# Altium footprint library Resistor.PcbLib: 42 footprints (part 2 of 3)
Each footprint in its own frame and in the unit in brackets; x right, y up, seen from the top. Pads: shape width x height; smd on the part's side, far side on the other; paste and mask are expansions set on the pad; w line width, h text height; cw(c..) or ccw(c..) is an arc to the next point about the centre after c.
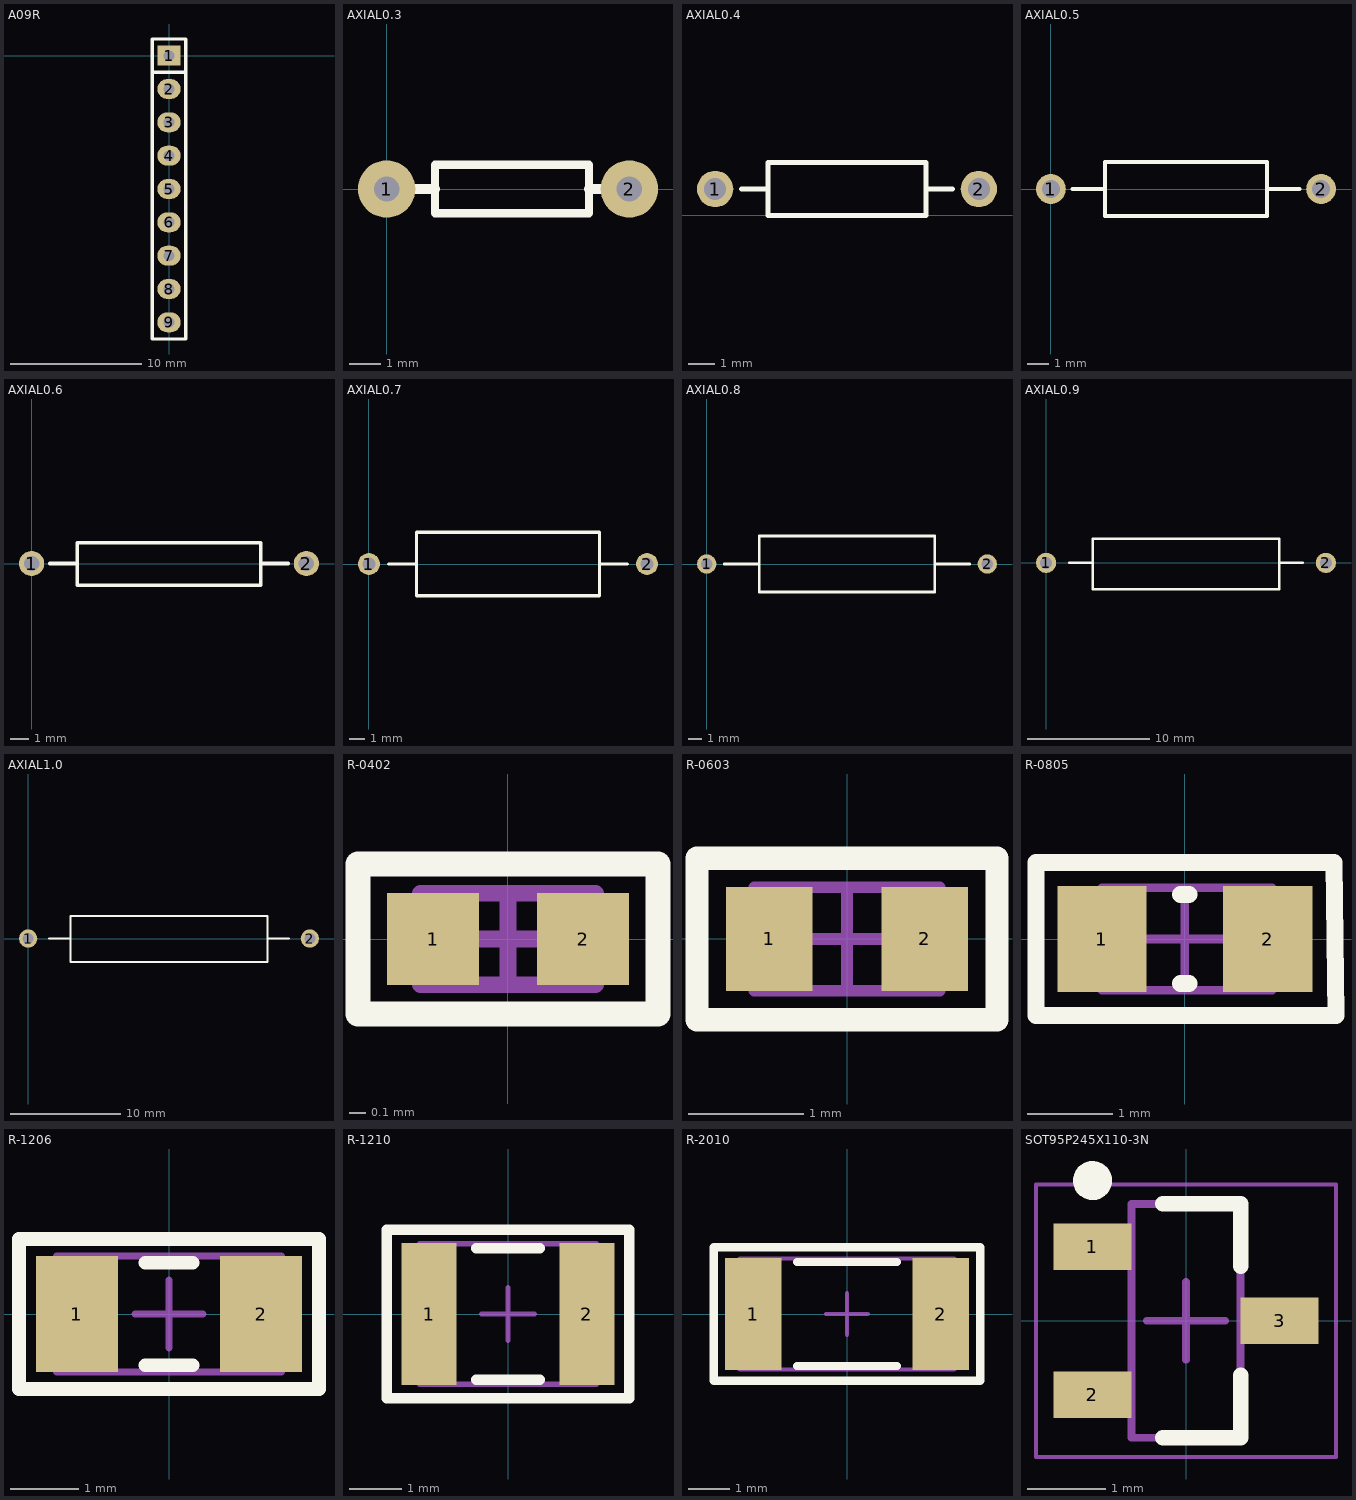
[diagram p1: the footprints below, top view; thin cyan lines are the x and y axes]

## A09R [mil]
pads (9):
  rect 70x60 hole 32: 1(0,0)
  oval 70x60 hole 32: 2(0,-100) 3(0,-200) 4(0,-300) 5(0,-400) 6(0,-500) 7(0,-600) 8(0,-700) 9(0,-800)
Top Overlay:
  lines w10: -50,-50 50,-50 ; -50,-850 -50,50 50,50 50,-850 -50,-850
Bottom Courtyard:
  text ".Designator" at 299.9,-419.99 h60
3D body "Resistor array 9pin.step": height 169.29, standoff -165.35, extent -24.21,-852.91 25,32.92

## AXIAL0.3 [mm]
pads (2):
  round 1.8 hole 0.8: 1(0,0) 2(7.62,0)
Top Overlay:
  lines w0.254: 1.524,-0.762 1.524,0.762 6.35,0.762 6.35,-0.762 1.524,-0.762
  lines w0.305: 0.762,0 1.524,0 ; 6.35,0 6.858,0
Bottom Courtyard:
  text ".Designator" at 11.428,-0.508 h1.52
3D body "RESISTOR 7_62MM DIP.step": height 1.25, standoff -2.75, extent -0.24,-1 7.86,1

## AXIAL0.4 [mm] "1/4W/1/2W"
height 2.032
pads (2):
  round 1.4 hole 0.85: 1(3.302,1.016) 2(13.462,1.016)
Top Overlay:
  lines w0.2: 4.318,1.016 5.334,1.016 ; 11.43,1.016 12.446,1.016 ; 5.334,0 11.43,0 11.43,2.032 5.334,2.032 5.334,0
Bottom Courtyard:
  text ".Designator" at 16,0.508 h1.52
3D body "AXIAL-0.4-0.25W.STEP": height 2.63, standoff -2.64, extent 3.002,-0.244 13.762,2.276

## AXIAL0.5 [mm] "1/2W/1W"
height 2.54
pads (2):
  round 1.4 hole 0.85: 1(0,0) 2(12.7,0)
Top Overlay:
  lines w0.2: 1.016,0 2.54,0 ; 10.16,0 11.684,0 ; 2.54,-1.27 2.54,1.27 10.16,1.27 10.16,-1.27 2.54,-1.27
Bottom Courtyard:
  text ".Designator" at 13.968,-0.54 h1.52
3D body "User Library-Resistencia 0_5.STEP": height 3.1, standoff -1.5, extent -0.381,-1.461 13.081,1.397

## AXIAL0.6 [mm] "Variable Resistor; 2 Leads"
height 2.54
pads (2):
  round 1.4 hole 0.85: 1(0,0) 2(15.24,0)
Top Overlay:
  lines w0.2: 1.016,0 2.54,0 ; 12.7,0 14.224,0 ; 2.54,-1.194 2.54,1.143 12.7,1.143 12.7,-1.194 2.54,-1.194
Bottom Courtyard:
  text ".Designator" at 15.238,-0.559 h1.52
3D body "AXIAL06.STEP": height 2.5, standoff -0.8, extent -0.117,-1.351 15.443,1.249

## AXIAL0.7 [mm] "Variable Resistor; 2 Leads"
height 4.064
pads (2):
  round 1.4 hole 0.85: 1(0,0) 2(17.78,0)
Top Overlay:
  lines w0.2: 1.27,0 3.048,0 ; 14.732,0 16.51,0 ; 3.048,-2.032 3.048,2.032 14.732,2.032 14.732,-2.032 3.048,-2.032
Bottom Courtyard:
  text ".Designator" at 16.508,-0.621 h1.52
3D body "AXIAL07.STEP": height 4.3, standoff -1, extent -0.324,-2.413 18.136,2.187

## AXIAL0.8 [mm] "Adjustable Inductor; 2 Leads"
height 4.064
pads (2):
  round 1.4 hole 0.85: 1(0,0) 2(20.32,0)
Top Overlay:
  lines w0.2: 1.27,0 3.81,0 ; 16.51,0 19.05,0 ; 3.81,-2.032 3.81,2.032 16.51,2.032 16.51,-2.032 3.81,-2.032
Bottom Courtyard:
  text ".Designator" at 17.778,-0.545 h1.52
3D body "AXIAL08.STEP": height 4.3, standoff -1, extent -0.348,-2.337 20.752,2.263

## AXIAL0.9 [mm] "Magnetic-Core Inductor; 2 Leads"
height 5.08
pads (2):
  round 1.65 hole 1: 1(0,0) 2(22.86,0)
Top Overlay:
  lines w0.2: 1.905,0 3.81,0 ; 19.05,0 20.955,0 ; 3.81,-2.159 19.05,-2.159 19.05,1.981 3.81,1.981 3.81,-2.159
Bottom Courtyard:
  text ".Designator" at 19.048,-0.57 h1.52
3D body "AXIAL09.STEP": height 4.3, standoff -1, extent -0.459,-2.362 23.241,2.238

## AXIAL1.0 [mm] "Adjustable Magnetic-Core Inductor; 2 Leads"
height 7.62
pads (2):
  round 1.65 hole 1: 1(0,0) 2(25.4,0)
Top Overlay:
  lines w0.2: 1.905,0 3.81,0 ; 21.59,0 23.495,0 ; 3.81,-2.108 3.81,2.032 21.59,2.032 21.59,-2.108 3.81,-2.108
Bottom Courtyard:
  text ".Designator" at 20.318,-0.57 h1.52
3D body "AXIAL10.STEP": height 4.3, standoff -1, extent -0.368,-2.362 25.832,2.238

## R-0402 [mm] "Chip Resistor, 2-Leads, Body 1.00x0.50mm, IPC Medium Density"
height 0.35
pads (2):
  rect 0.55x0.55 smd: 1(-0.45,0) 2(0.45,0)
Top Overlay:
  lines w0.15: -0.9,-0.45 -0.9,0.45 0.9,0.45 0.9,-0.45 -0.9,-0.45
Top Value:
  text "'.Comment'" at -1.292,-0.174 h0.6
Top Designator:
  text "'.Designator'" at -1.713,-0.125 h0.6
Top Courtyard:
  lines w0.05: -0.9,-0.45 0.9,-0.45 0.9,0.45 -0.9,0.45 -0.9,-0.45
  lines w0.1: -0.275,0 0.275,0 ; 0,-0.275 0,0.275
Top Assembly (Mech20):
  lines w0.1: -0.525,-0.275 0.525,-0.275 0.525,0.275 -0.525,0.275 -0.525,-0.275
3D body "res_0402.stp": height 0.4, standoff 0, extent -0.5,-0.275 0.5,0.275

## R-0603 [mm] "Chip Resistor, 2-Leads, Body 1.60x0.80mm, IPC Medium Density"
height 0.45
pads (2):
  rect 0.75x0.9 smd: 1(-0.675,0) 2(0.675,0)
Top Overlay:
  lines w0.2: -1.3,-0.7 1.3,-0.7 1.3,0.7 -1.3,0.7 -1.3,-0.7
Top Value:
  text "'.Comment'" at -1.718,-0.231 h0.8
Top Designator:
  text "'.Designator'" at -2.279,-0.167 h0.8
Top Courtyard:
  lines w0.05: -1.3,-0.7 1.3,-0.7 1.3,0.7 -1.3,0.7 -1.3,-0.7
  lines w0.1: -0.45,0 0.45,0 ; 0,-0.45 0,0.45
Top Assembly (Mech20):
  lines w0.1: -0.805,-0.45 0.805,-0.45 0.805,0.45 -0.805,0.45 -0.805,-0.45
3D body "res_0603.stp": height 0.6, standoff 0, extent -0.8,-0.425 0.8,0.425

## R-0805 [mm] "Chip Resistor, 2-Leads, Body 2.00x1.20mm, IPC Medium Density"
height 0.5
pads (2):
  rect 1.05x1.25 smd: 1(-0.975,0) 2(0.975,0)
Top Overlay:
  lines w0.2: -0.05,-0.525 0.05,-0.525 ; -0.05,0.525 0.05,0.525 ; -1.75,-0.9 1.775,-0.9 1.75,0.9 -1.75,0.9 -1.75,-0.9
Top Value:
  text "'.Comment'" at -2.157,-0.291 h1
Top Designator:
  text "'.Designator'" at -2.86,-0.209 h1
Top Courtyard:
  lines w0.05: -1.75,-0.9 -1.75,0.9 1.75,0.9 1.75,-0.9 -1.75,-0.9
  lines w0.1: -0.5,0 0.5,0 ; 0,-0.5 0,0.5
Top Assembly (Mech20):
  lines w0.1: -0.975,-0.6 1.025,-0.6 1.025,0.6 -0.975,0.6 -0.975,-0.6
3D body "res_0805.stp": height 0.65, standoff 0, extent -1,-0.6 1,0.6

## R-1206 [mm] "Chip Resistor, 2-Leads, Body 3.05x1.55mm, IPC Medium Density"
height 0.55
pads (2):
  rect 1.2x1.7 smd: 1(-1.35,0) 2(1.35,0)
Top Overlay:
  lines w0.2: -0.35,-0.75 0.35,-0.75 ; -0.35,0.75 0.35,0.75 ; -2.2,-1.1 -2.2,1.1 2.2,1.1 2.2,-1.1 -2.2,-1.1
Top Value:
  text "'.Comment'" at -3.022,-0.407 h1.4
Top Designator:
  text "'.Designator'" at -4.007,-0.293 h1.4
Top Courtyard:
  lines w0.05: -2.2,-1.1 -2.2,1.1 2.2,1.1 2.2,-1.1 -2.2,-1.1
  lines w0.1: -0.5,0 0.5,0 ; 0,-0.5 0,0.5
Top Assembly (Mech20):
  lines w0.1: -1.65,-0.85 1.65,-0.85 1.65,0.85 -1.65,0.85 -1.65,-0.85
3D body "RESC-1206.stp": height 0.65, standoff 0, extent -1.65,-0.85 1.65,0.85

## R-1210 [mm] "Chip Resistor, 2-Leads, Body 3.25x2.51mm, IPC Medium Density"
height 0.55
pads (2):
  rect 1.05x2.7 smd: 1(-1.5,0) 2(1.5,0)
Top Overlay:
  lines w0.2: -0.6,-1.25 0.6,-1.25 ; -0.6,1.25 0.6,1.25 ; -2.3,-1.6 -2.3,1.6 2.3,1.6 2.3,-1.6 -2.3,-1.6
Top Value:
  text "'.Comment'" at -3.022,-0.407 h1.4
Top Designator:
  text "'.Designator'" at -4.007,-0.293 h1.4
Top Courtyard:
  lines w0.05: -2.3,-1.6 -2.3,1.6 2.3,1.6 2.3,-1.6 -2.3,-1.6
  lines w0.1: -0.5,0 0.5,0 ; 0,-0.5 0,0.5
Top Assembly (Mech20):
  lines w0.1: -1.675,-1.335 -1.675,1.335 1.675,1.335 1.675,-1.335 -1.675,-1.335
3D body "RESC-1210.stp": height 0.6, standoff 0, extent -1.65,-1.35 1.65,1.35

## R-2010 [mm] "Chip Resistor, 2-Leads, Body 5.00x2.51mm, IPC Medium Density"
height 0.55
pads (2):
  rect 1.35x2.7 smd: 1(-2.25,0) 2(2.25,0)
Top Overlay:
  lines w0.2: -1.2,-1.25 1.2,-1.25 ; -1.2,1.25 1.2,1.25 ; -3.2,-1.6 -3.2,1.6 3.2,1.6 3.2,-1.6 -3.2,-1.6
Top Value:
  text "'.Comment'" at -3.887,-0.524 h1.8
Top Designator:
  text "'.Designator'" at -5.155,-0.377 h1.8
Top Courtyard:
  lines w0.05: -3.2,-1.6 3.2,-1.6 3.2,1.6 -3.2,1.6 -3.2,-1.6
  lines w0.1: -0.5,0 0.5,0 ; 0,-0.5 0,0.5
Top Assembly (Mech20):
  lines w0.1: -2.575,-1.335 2.575,-1.335 2.575,1.335 -2.575,1.335 -2.575,-1.335
3D body "RESC-2010.stp": height 0.65, standoff 0, extent -2.55,-1.3 2.55,1.3

## SOT95P245X110-3N [mm] "SOT23, 3-Leads, Body 2.90x2.45mm, Pitch 0.95mm, IPC Medium Density"
height 1.1
pads (3):
  rect 1x0.6 smd: 1(-1.2,0.95) 2(-1.2,-0.95) 3(1.2,0)
Top Overlay:
  circle w0.25: c-1.2,1.8 r0.125
  lines w0.2: -0.3,-1.5 0.7,-1.5 0.7,-0.7 ; -0.3,1.5 0.7,1.5 0.7,0.7
Top Assembly:
  lines w0.1: -0.7,-1.5 -0.7,1.5 0.7,1.5 0.7,-1.5 -0.7,-1.5
Top Courtyard:
  lines w0.05: -1.925,-1.75 -1.925,1.75 1.925,1.75 1.925,-1.75 -1.925,-1.75
  lines w0.1: -0.5,0 0.5,0 ; 0,-0.5 0,0.5
3D body: height 1.1, standoff 0.05, extent -0.7,-1.5 0.7,1.5